# EAGLE library part SN74LVC1G74 (library bschulz)
SN74LVC1G74 - D-Type Flip Flop with Clear and Preset, 1 Element Characteristics: VCC: 2 ~ 6V Edge Trigger: Positive Edge Operating Temperature: -40°C to 85°C Digikey: 296-25554-1-ND (VFSOP ) <https://www.digikey.com/product-detail/en/texas-instruments/SN74LVC1G74DCUR/296-25554-1-ND/2195379>
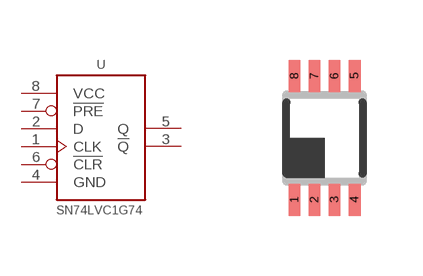
[diagram p52: symbol with the pads of DCU_(R-PDSO-G8); footprint DCU_(R-PDSO-G8)]

Designator prefix U

## SN74LVC1G74DCU (DIGIKEY: 296-25554-1-ND; MF: TI; MPN: SN74LVC1G74DCUR)  [DCU_(R-PDSO-G8)]
1  CLK  out
2  D  out
3  !Q  out
4  GND  out
5  Q  out
6  !CLR  out
7  !PRE  out
8  VCC  out

## Footprint DCU_(R-PDSO-G8) (pad centres in mm)
DCU (R-PDSO-G8) PLASTIC SMALL OUTLINE PACKAGE (DIE DOWN) Soure: Data sheet <http://www.ti.com/lit/ds/symlink/ads7042.pdf>
smd 0.3 x 0.8: 1 -0.75,-1.55; 2 -0.25,-1.55; 3 0.25,-1.55; 4 0.75,-1.55; 5 0.75,1.55; 6 0.25,1.55; 7 -0.25,1.55; 8 -0.75,1.55